# Altium footprint library 610 0xx 243 021.PcbLib: 17 footprints (part 2 of 2)
Each footprint in its own frame and in the unit in brackets; x right, y up, seen from the top. Pads: shape width x height; smd on the part's side, far side on the other; paste and mask are expansions set on the pad; w line width, h text height; cw(c..) or ccw(c..) is an arc to the next point about the centre after c.
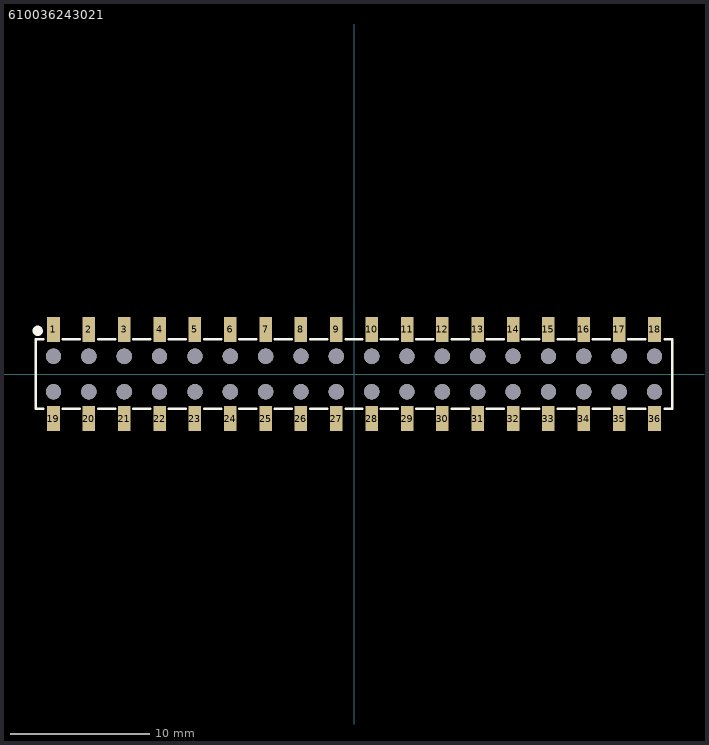
[diagram p1: the footprint, top view; thin cyan lines are the x and y axes]

## 610036243021 [mm] "36p dual row straight 3,7mm height"
height 3.7
pads (72):
  rect 0.9x1.8 smd: 1(-21.59,3.2) 2(-19.05,3.2) 3(-16.51,3.2) 4(-13.97,3.2) 5(-11.43,3.2) 6(-8.89,3.2) 7(-6.35,3.2) 8(-3.81,3.2) 9(-1.27,3.2) 10(1.27,3.2) 11(3.81,3.2) 12(6.35,3.2) 13(8.89,3.2) 14(11.43,3.2) 15(13.97,3.2) 16(16.51,3.2) 17(19.05,3.2) 18(21.59,3.2) 19(-21.59,-3.2) 20(-19.05,-3.2) 21(-16.51,-3.2) 22(-13.97,-3.2) 23(-11.43,-3.2) 24(-8.89,-3.2) 25(-6.35,-3.2) 26(-3.81,-3.2) 27(-1.27,-3.2) 28(1.27,-3.2) 29(3.81,-3.2) 30(6.35,-3.2) 31(8.89,-3.2) 32(11.43,-3.2) 33(13.97,-3.2) 34(16.51,-3.2) 35(19.05,-3.2) 36(21.59,-3.2)
  round 1.1 hole 1.1 unplated: ""(-21.59,-1.27) ""(-21.59,1.27) ""(-19.05,-1.27) ""(-19.05,1.27) ""(-16.51,-1.27) ""(-16.51,1.27) ""(-13.97,-1.27) ""(-13.97,1.27) ""(-11.43,-1.27) ""(-11.43,1.27) ""(-8.89,-1.27) ""(-8.89,1.27) ""(-6.35,-1.27) ""(-6.35,1.27) ""(-3.81,-1.27) ""(-3.81,1.27) ""(-1.27,-1.27) ""(-1.27,1.27) ""(1.27,-1.27) ""(1.27,1.27) ""(3.81,-1.27) ""(3.81,1.27) ""(6.35,-1.27) ""(6.35,1.27) ""(8.89,-1.27) ""(8.89,1.27) ""(11.43,-1.27) ""(11.43,1.27) ""(13.97,-1.27) ""(13.97,1.27) ""(16.51,-1.27) ""(16.51,1.27) ""(19.05,-1.27) ""(19.05,1.27) ""(21.59,-1.27) ""(21.59,1.27)
Top Overlay:
  circle w0.5: c-22.72,3.1 r0.122
  lines w0.2: -22.32,-2.5 -22.86,-2.5 -22.86,2.5 -22.32,2.5 ; -20.92,-2.5 -19.72,-2.5 ; -20.92,2.5 -19.72,2.5 ; -18.38,-2.5 -17.18,-2.5 ; -18.38,2.5 -17.18,2.5 ; -15.84,-2.5 -14.64,-2.5 ; -15.84,2.5 -14.64,2.5 ; -13.3,-2.5 -12.1,-2.5 ; -13.3,2.5 -12.1,2.5 ; -10.76,-2.5 -9.56,-2.5 ; -10.76,2.5 -9.56,2.5 ; -8.22,-2.5 -7.02,-2.5 ; -8.22,2.5 -7.02,2.5 ; -5.68,-2.5 -4.48,-2.5 ; -5.68,2.5 -4.48,2.5 ; -3.14,-2.5 -1.94,-2.5 ; -3.14,2.5 -1.94,2.5 ; -0.6,-2.5 0.6,-2.5 ; -0.6,2.5 0.6,2.5 ; 1.94,-2.5 3.14,-2.5 ; 1.94,2.5 3.14,2.5 ; 4.48,-2.5 5.68,-2.5 ; 4.48,2.5 5.68,2.5 ; 7.02,-2.5 8.22,-2.5 ; 7.02,2.5 8.22,2.5 ; 9.56,-2.5 10.76,-2.5 ; 9.56,2.5 10.76,2.5 ; 12.1,-2.5 13.3,-2.5 ; 12.1,2.5 13.3,2.5 ; 14.64,-2.5 15.84,-2.5 ; 14.64,2.5 15.84,2.5 ; 17.18,-2.5 18.38,-2.5 ; 17.18,2.5 18.38,2.5 ; 19.72,-2.5 20.92,-2.5 ; 19.72,2.5 20.92,2.5 ; 22.32,-2.5 22.86,-2.5 22.86,2.5 22.32,2.5
3D body "610036243021.stp": height 3.68, standoff -0.02, extent -22.86,-3.603 22.86,3.603